# Altium schematic symbol library stereo_tayda_plug.SchLib: 1 symbol
Pins are listed as number, name and electrical type; pins without a type are passive.

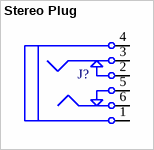
[diagram p0: symbol Stereo Plug]

## Stereo Plug
designator J?  (value not drawn)
Tayda Stereo Plug; Link: http://www.taydaelectronics.com/hardware/6-35mm-1-4-plugs-jacks/6-35mm-1-4-stereo-insulated-switched-socket-jack-pcb.html
footprint Stereo Jack (Tayda Stereo Jack)
pins: 1, 2, 3, 4, 5, 6